# Altium footprint library SW_MINI-SPDT-SW.PcbLib: 1 footprints
Each footprint in its own frame and in the unit in brackets; x right, y up, seen from the top. Pads: shape width x height; smd on the part's side, far side on the other; paste and mask are expansions set on the pad; w line width, h text height; cw(c..) or ccw(c..) is an arc to the next point about the centre after c.
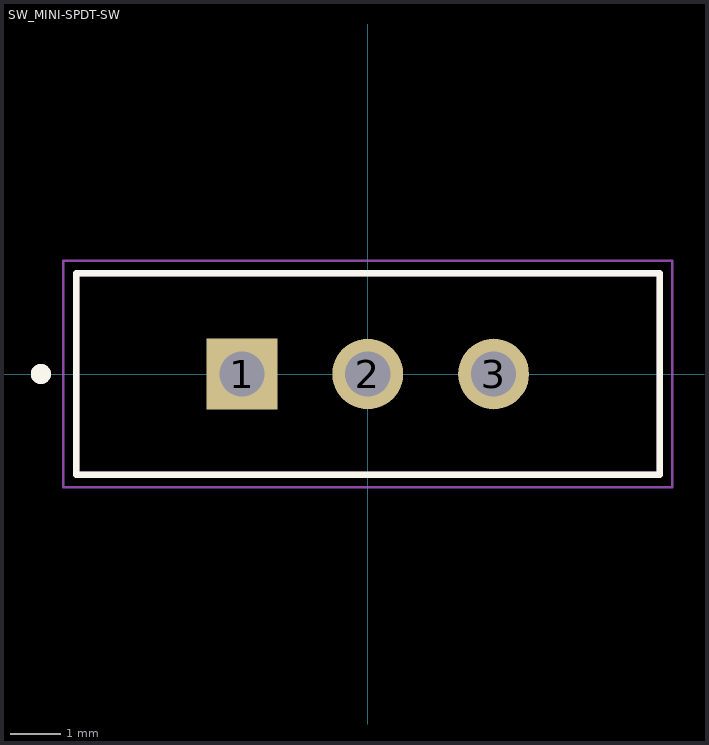
[diagram p0: the footprint, top view; thin cyan lines are the x and y axes]

## SW_MINI-SPDT-SW [mm]
pads (3):
  rect 1.408x1.408 hole 0.9: 1(-2.5,0)
  round 1.408 hole 0.9: 2(0,0) 3(2.5,0)
Top Overlay:
  circle w0.2: c-6.5,0 r0.1
  lines w0.127: -5.8,-2 5.8,-2 5.8,2 -5.8,2 -5.8,-2
Mechanical 13:
  circle w0.2: c-6.5,0 r0.1
  lines w0.127: -5.8,-2 5.8,-2 5.8,2 -5.8,2 -5.8,-2
Mechanical 15:
  lines w0.05: -6.05,-2.25 6.05,-2.25 6.05,2.25 -6.05,2.25 -6.05,-2.25
3D body "MINI-SPDT-SW--3DModel-STEP-56544.STEP": height 7.4, standoff -4.7, extent -5.8,-2.032 5.8,1.968